# Altium footprint library TFML-110-01-L-D-RA.PcbLib: 1 footprints
Each footprint in its own frame and in the unit in brackets; x right, y up, seen from the top. Pads: shape width x height; smd on the part's side, far side on the other; paste and mask are expansions set on the pad; w line width, h text height; cw(c..) or ccw(c..) is an arc to the next point about the centre after c.
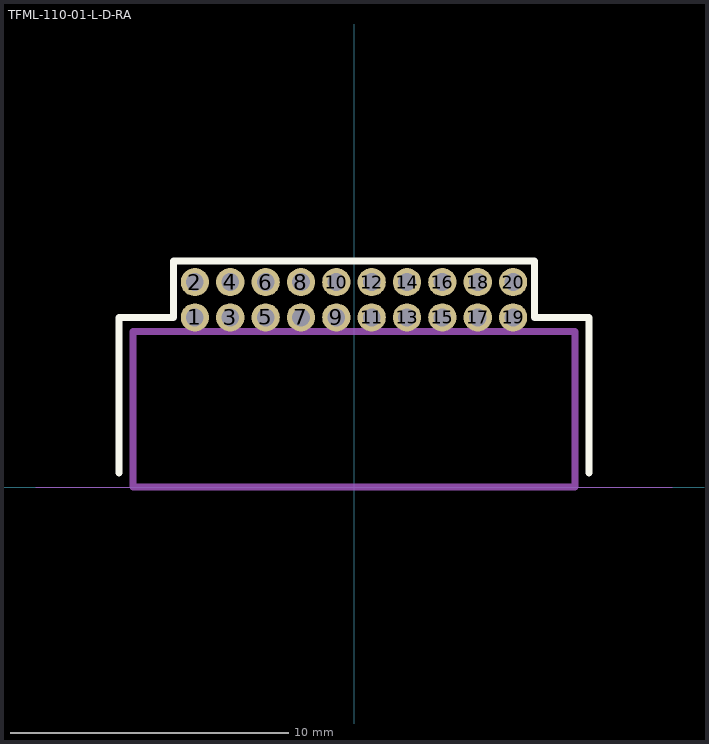
[diagram p0: the footprint, top view; thin cyan lines are the x and y axes]

## TFML-110-01-L-D-RA [mil]
pads (20):
  round 40 hole 25: 1(-225,240) 2(-225,290) 3(-175,240) 4(-175,290) 5(-125,240) 6(-125,290) 7(-75,240) 8(-75,290) 9(-25,240) 10(-25,290) 11(25,240) 12(25,290) 13(75,240) 14(75,290) 15(125,240) 16(125,290) 17(175,240) 18(175,290) 19(225,240) 20(225,290)
Top Overlay:
  lines w10: -332.5,20 -332.5,240 -255,240 -255,320 255,320 255,240 332.5,240 332.5,20
Mechanical 13:
  lines w10: -312.5,0 312.5,0 312.5,220 -312.5,220 -312.5,0
Mechanical 15:
  lines w1: -450,0 450,0
3D body "TFML-110-01-L-D-RA.stp": height 211.71, standoff -88.29, extent -312.5,1.65 312.5,296.65